# EAGLE library part TJA1021 (library bytewerk-network)
LIN Tranceiver
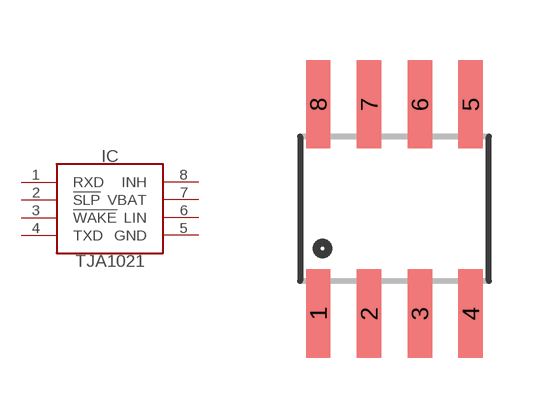
[diagram p5: symbol with the pads of SO08; footprint SO08]

Designator prefix IC

## TJA1021  [SO08]
1  RXD  in
2  !SLP!  in
3  !WAKE!  in
4  TXD  out
5  GND  pwr
6  LIN
7  VBAT  pwr
8  INH  out

## Footprint SO08 (pad centres in mm)
Small Outline Package Fits JEDEC packages (narrow SOIC-8)
smd 0.61 x 2.21: 1 -1.905,-2.616; 2 -0.635,-2.616; 3 0.635,-2.616; 4 1.905,-2.616; 5 1.905,2.616; 6 0.635,2.616; 7 -0.635,2.616; 8 -1.905,2.616